# EAGLE library part IRS218 (library nonolith)
IRS2186/7 FET Driver in SOIC 4a half-H bootstrapped FET driver
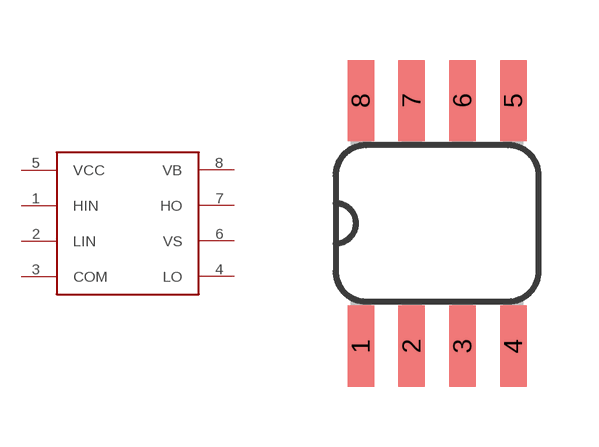
[diagram p43: symbol with the pads of SO-08; footprint SO-08]

Designator prefix -

## IRS218-6  [SO-08]
1  HIN
2  LIN
3  COM
4  LO
5  VCC
6  VS
7  HO
8  VB

## IRS218-67  [SO-08]
1  VCC
2  HIN
3  LIN
4  COM
5  LO
6  VS
7  HO
8  VB

## Footprint SO-08 (pad centres in mm)
smd 0.66 x 2.032: 1 -1.905,-3.073; 2 -0.635,-3.073; 3 0.635,-3.073; 4 1.905,-3.073; 5 1.905,3.073; 6 0.635,3.073; 7 -0.635,3.073; 8 -1.905,3.073